# Altium footprint library Fuse_Wurth_696101000002_eec_MFG.PcbLib: 1 footprints
Each footprint in its own frame and in the unit in brackets; x right, y up, seen from the top. Pads: shape width x height; smd on the part's side, far side on the other; paste and mask are expansions set on the pad; w line width, h text height; cw(c..) or ccw(c..) is an arc to the next point about the centre after c.
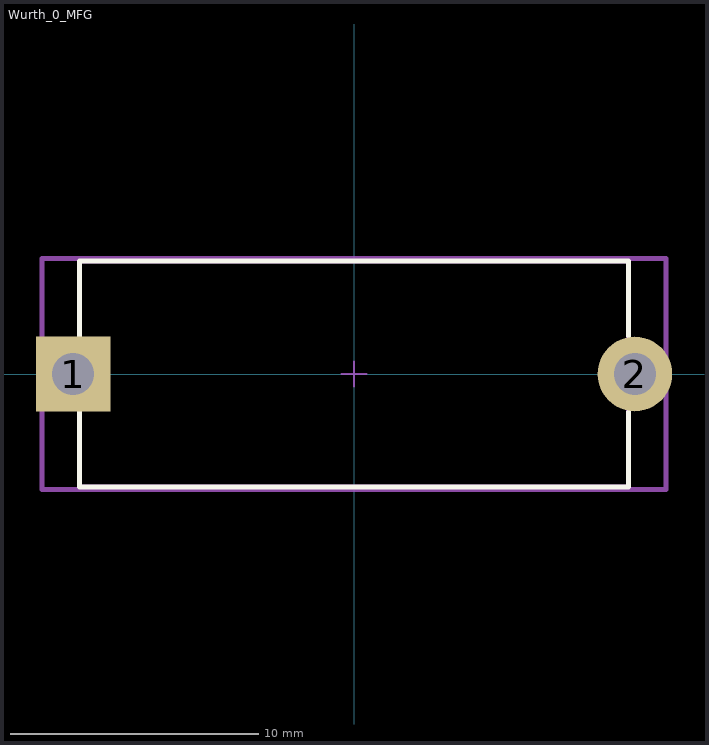
[diagram p0: the footprint, top view; thin cyan lines are the x and y axes]

## Wurth_0_MFG [mm]
pads (2):
  rect 3x3 hole 1.7 paste-1000 mask+0: 1(-11.3,0)
  round 3 hole 1.7 paste-1000 mask+0: 2(11.3,0)
Top Overlay:
  lines w0.2: -11.05,-1.525 -11.05,-4.55 11.05,-4.55 11.05,-1.525 ; -11.05,1.525 -11.05,4.55 11.05,4.55 11.05,1.525
Mechanical 10:
  lines w0.2: -12.55,-4.65 12.55,-4.65 12.55,4.65 -12.55,4.65 -12.55,-4.65
Mechanical 12:
  lines w0.2: -11.05,-4.55 11.05,-4.55 11.05,4.55 -11.05,4.55 -11.05,-4.55
Mechanical 15:
  lines w0.1: -0.5,0 0.5,0 ; 0,-0.5 0,0.5
  lines w0.2: -12.55,-4.65 12.55,-4.65 12.55,4.65 -12.55,4.65 -12.55,-4.65
3D body "Fuse_Wurth_696101000002_eec.STEP": height 0.25, standoff 0, extent -12.55,-4.65 12.55,4.65